# Altium schematic symbol library C466768.SchLib: 1 symbol
Pins are listed as number, name and electrical type; pins without a type are passive.

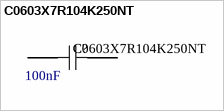
[diagram p0: symbol C0603X7R104K250NT]

## C0603X7R104K250NT
designator C?  value 100nF
Name: C466768; Source: LCSC
footprint C0603 (1uF ±10% 50V Ceramic Capacitor X5R 0603)
pins: 1, 2